# Altium schematic symbol library 20key.SCHLIB: 9 symbols
Pins are listed as number, name and electrical type; pins without a type are passive.

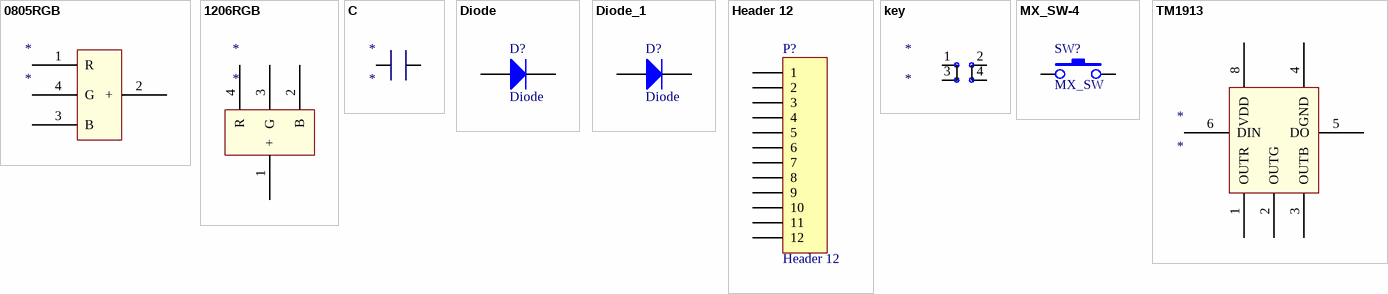
[diagram p0: symbols 0805RGB to TM1913]

## 0805RGB
designator *
footprint CAC-70P125X200-4L (Chip Array, Concave, 4-Leads, Pitch 0.70mm,  Body 1.25x2.00mm,  IPC High Density)
pins: 1 R, 2 +, 3 B, 4 G

## 1206RGB
designator *
footprint CAC-150P150X300-4M (Chip Array, Concave, 4-Leads, Pitch 1.50mm,  Body 1.50x3.00mm,  IPC Low Density)
pins: 1 +, 2 B, 3 G, 4 R

## C
designator *
C: C*; value: 100nF
footprint PCBComponent_1
pins: 1, 2

## Diode
designator D?
Default Diode; Published: 8-Jun-2000; LatestRevisionDate: 17-Jul-2002; LatestRevisionNote: Re-released for DXP Platform.; PackageVersion: Sep-1996; PackageReference: SMC; Publisher: Altium Limited; PackageDescription: DO-214-AB/SMC; 2 C-Bend Leads; Body 7.9 x 5.9 mm, inc. leads (LxW); Code_JEDEC: DO-214-AB
footprint SMC (DO-214-AB/SMC; 2 C-Bend Leads; Body 7.9 x 5.9 mm, inc. leads (LxW))
simulation model DIODE (Diode)
signal-integrity model Diode
footprint DIOM4327X24M (Molded Diode, 2-Leads, Body 4.29x2.69mm, IPC Low Density)
footprint DIOM4327X24M (Molded Diode, 2-Leads, Body 4.29x2.69mm, IPC Low Density)
pins: 1 A, 2 K

## Diode_1
designator D?, comment Diode
Default Diode; Published: 8-Jun-2000; LatestRevisionDate: 17-Jul-2002; LatestRevisionNote: Re-released for DXP Platform.; PackageVersion: Sep-1996; PackageReference: SMC; Publisher: Altium Limited; PackageDescription: DO-214-AB/SMC; 2 C-Bend Leads; Body 7.9 x 5.9 mm, inc. leads (LxW); Code_JEDEC: DO-214-AB
footprint DIOM4327X24M (Molded Diode, 2-Leads, Body 4.29x2.69mm, IPC Low Density)
footprint SODFL160X77-2M (SODFL, 2-Leads, Body 0.80x1.60mm, IPC Low Density)
pins: 1 K, 2 A

## Header 12
designator P?
Header, 12-Pin; LatestRevisionDate: 17-Jul-2002; LatestRevisionNote: Re-released for DXP Platform.; Publisher: Altium Limited
footprint HDR1X12 (Connector; Header; 12 Position)
signal-integrity model Connector
pins: 1, 2, 3, 4, 5, 6, 7, 8, 9, 10, 11, 12

## key
designator *
footprint PCBComponent_1
pins: 1 A, 2 B, 3 A, 4 B

## MX_SW-4
designator SW?, comment MX_SW
with Fixation pins  1-Pole
footprint MX_SW-4 (with Fixation pins  1-Pole)
pins: 1, 2

## TM1913
designator *
footprint SOP127P600X175-8L (SOP, 8-Leads, Body 4.90x3.90mm, Pitch 1.27mm, IPC High Density)
pins: 1 OUTR, 2 OUTG, 3 OUTB, 4 GND, 5 DO, 6 DIN, 8 VDD